# Altium footprint library AnahtarlamaPCB.PcbLib: 7 footprints
Each footprint in its own frame and in the unit in brackets; x right, y up, seen from the top. Pads: shape width x height; smd on the part's side, far side on the other; paste and mask are expansions set on the pad; w line width, h text height; cw(c..) or ccw(c..) is an arc to the next point about the centre after c.
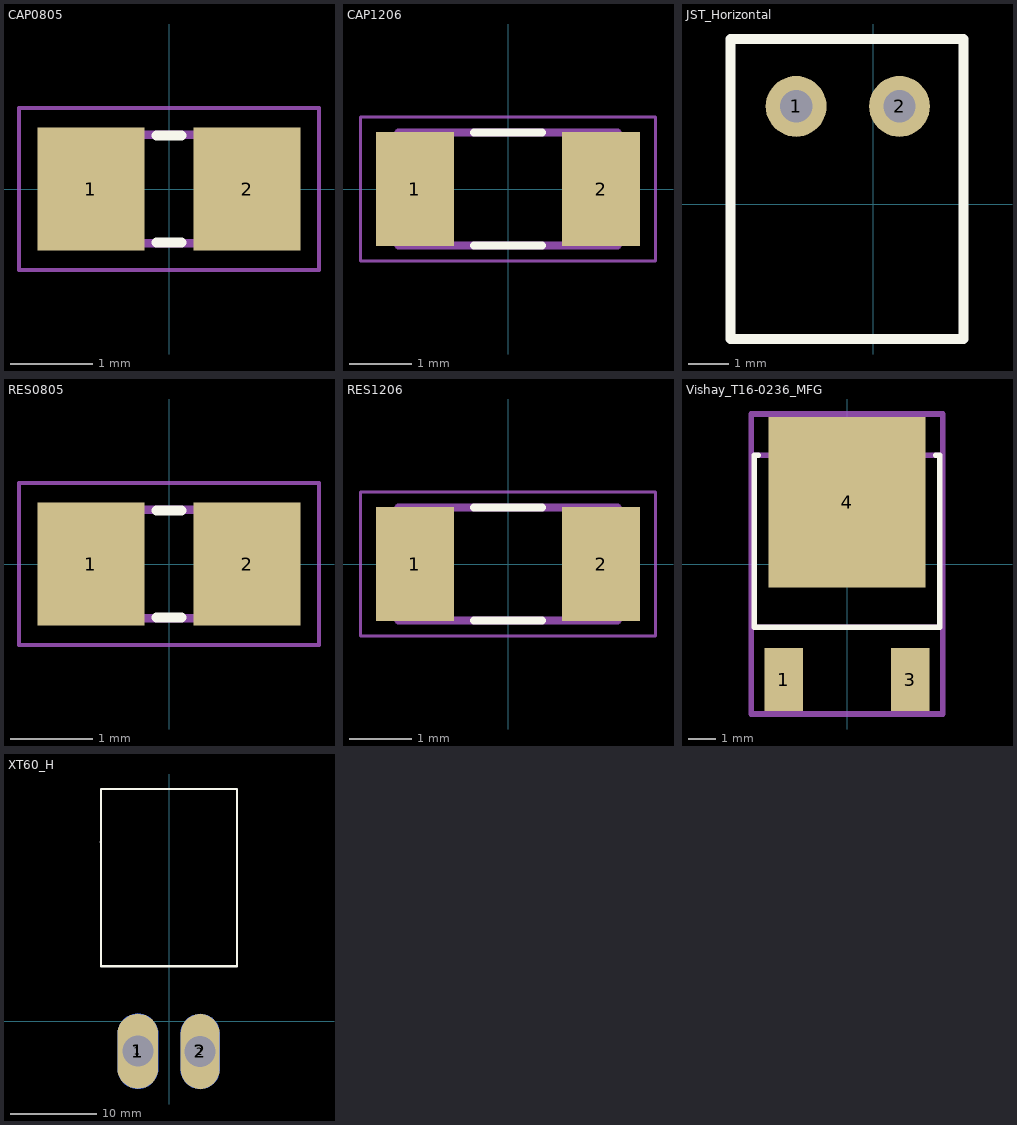
[diagram p0: the footprints below, top view; thin cyan lines are the x and y axes]

## CAP0805 [mm]
pads (2):
  rect 1.3x1.5 smd: 1(-0.95,0) 2(0.95,0)
Top Overlay:
  lines w0.127: -0.15,-0.65 0.15,-0.65 ; -0.15,0.65 0.15,0.65
Mechanical 4:
  region: -1.092,0.726 -0.342,0.726 -0.342,-0.724 -1.092,-0.724
  region: 0.356,0.726 1.106,0.726 1.106,-0.724 0.356,-0.724
  region: -1.092,0.726 -0.342,0.726 -0.342,-0.724 -1.092,-0.724
  region: 0.356,0.726 1.106,0.726 1.106,-0.724 0.356,-0.724
  lines w0.102: -0.381,0.66 0.381,0.66 -0.381,0.66 ; -0.356,-0.66 0.381,-0.66 -0.356,-0.66
Mechanical 16:
  lines w0.051: -1.823,-0.983 1.823,-0.983 1.823,0.983 -1.823,0.983 -1.823,-0.983
3D body "70611053.stp": height 0.96, standoff -0.04, extent -1.1,-0.775 1.2,0.775

## CAP1206 [mm]
pads (2):
  rect 1.24x1.82 smd: 1(-1.485,0) 2(1.485,0)
Top Overlay:
  lines w0.127: -0.54,-0.9 0.54,-0.9 ; -0.54,0.9 0.54,0.9
Mechanical 4:
  lines w0.127: -1.75,-0.9 1.75,-0.9 ; -1.75,-0.9 -1.75,0.9 ; -1.75,-0.9 1.75,-0.9 ; -1.75,-0.9 -1.75,0.9 ; -1.75,0.9 1.75,0.9 ; -1.75,0.9 1.75,0.9 ; 1.75,-0.9 1.75,0.9 ; 1.75,-0.9 1.75,0.9
Mechanical 16:
  lines w0.05: -2.355,-1.15 2.355,-1.15 2.355,1.15 -2.355,1.15 -2.355,-1.15
3D body "1206 SMD Capacitor.step": height 1, standoff 0, extent -1.5,-0.775 1.7,0.825

## JST_Horizontal [mm]
pads (2):
  round 1.5 hole 0.8: 1(-1.905,2.413) 2(0.645,2.413)
Top Overlay:
  lines w0.254: -3.525,-3.325 -3.525,4.075 2.225,4.075 2.225,-3.325 -3.525,-3.325
3D body "User Library-S2B-XH-A-1.step": height 5.95, standoff -3.4, extent -4.335,-6.766 3.065,4.734

## RES0805 [mm]
pads (2):
  rect 1.3x1.5 smd: 1(-0.95,0) 2(0.95,0)
Top Overlay:
  lines w0.127: -0.15,-0.65 0.15,-0.65 ; -0.15,0.65 0.15,0.65
Mechanical 4:
  region: 0.356,0.726 1.106,0.726 1.106,-0.724 0.356,-0.724
  region: -1.092,0.726 -0.342,0.726 -0.342,-0.724 -1.092,-0.724
  region: 0.356,0.726 1.106,0.726 1.106,-0.724 0.356,-0.724
  region: -1.092,0.726 -0.342,0.726 -0.342,-0.724 -1.092,-0.724
  lines w0.102: -0.381,0.66 0.381,0.66 -0.381,0.66 ; -0.356,-0.66 0.381,-0.66 -0.356,-0.66
Mechanical 16:
  lines w0.051: -1.823,-0.983 -1.823,0.983 1.823,0.983 1.823,-0.983 -1.823,-0.983
3D body "res_0805.stp": height 0.65, standoff 0, extent -1,-0.6 1,0.6

## RES1206 [mm]
pads (2):
  rect 1.24x1.82 smd: 1(-1.485,0) 2(1.485,0)
Top Overlay:
  lines w0.127: -0.54,-0.9 0.54,-0.9 ; -0.54,0.9 0.54,0.9
Mechanical 4:
  lines w0.127: -1.75,-0.9 -1.75,0.9 ; -1.75,-0.9 1.75,-0.9 ; -1.75,-0.9 -1.75,0.9 ; -1.75,-0.9 1.75,-0.9 ; -1.75,0.9 1.75,0.9 ; -1.75,0.9 1.75,0.9 ; 1.75,-0.9 1.75,0.9 ; 1.75,-0.9 1.75,0.9
Mechanical 16:
  lines w0.05: -2.355,-1.15 -2.355,1.15 2.355,1.15 2.355,-1.15 -2.355,-1.15
3D body "res_1206.stp": height 0.7, standoff 0, extent -1.5,-0.8 1.7,0.8

## Vishay_T16-0236_MFG [mil]
pads (3):
  rect 55x90 smd paste+0 mask+0: 1(-90,-165) 3(90,-165)
  rect 224.02x243.31 smd paste+0 mask+0: 4(0,88.35)
Top Overlay:
  lines w7.87: -126.77,154.92 -132.48,154.92 -132.48,-89.96 132.48,-89.96 132.48,154.92 126.77,154.92
Mechanical 10:
  lines w7.87: -136.42,-213.94 136.42,-213.94 136.42,213.94 -136.42,213.94 -136.42,-213.94
  text ".Designator" at 0,0 h39.37
Mechanical 12:
  lines w7.87: -132.48,-89.96 132.48,-89.96 132.48,154.92 -132.48,154.92 -132.48,-89.96
Mechanical 15:
  lines w3.94: -19.68,0 19.68,0 ; 0,-19.68 0,19.68
  lines w7.87: -136.42,-213.94 136.42,-213.94 136.42,213.94 -136.42,213.94 -136.42,-213.94
3D body "Trans_Vishay_SUD50P04-08-GE3_eec.STEP": height 10, standoff 0, extent -136.42,-213.94 136.42,213.94

## XT60_H [mil]
pads (6):
  round 60 hole 141.73: 1(-143,-137) 2(142,-139)
  oval 185.98x343.46 smd far side: 1(-143,-137)
  oval 185.98x343.46 smd: 1(-143,-137)
  oval 178.11x343.46 smd far side: 2(142,-138)
  oval 178.11x343.46 smd: 2(142,-138)
Top Overlay:
  lines w10: -313,820 cw(c-313,819) -312,819 ; -312.05,252 ccw(c-312.05,252.05) -312,252.05 -312,1062.53 310,1062.53 310,267.25 310,252.25 310,252 -312.05,252
3D body "User Library-XT60 male.STEP": height 337.6, standoff 16.73, extent -314.99,228 310.99,1062.65